# Altium schematic symbol library Indications.SchLib: 4 symbols
Pins are listed as number, name and electrical type; pins without a type are passive.

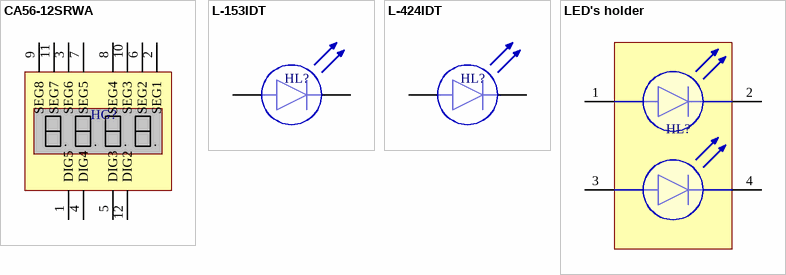
[diagram p0: symbols CA56-12SRWA to LED's holder]

## CA56-12SRWA
designator HG?  (value not drawn)
ValueManufacturer: Kingbright; ValueType: 4-х сегментный индикатор; ValueManufacturerPartNumber: CA56-12SRWA
footprint CA56-12SRWA
pins: 1 DIG5, 2 SEG1, 3 SEG6, 4 DIG4, 5 DIG3, 6 SEG2, 7 SEG5, 8 SEG4, 9 SEG8, 10 SEG3, 11 SEG7, 12 DIG2
text: .

## L-153IDT
designator HL?  (value not drawn)
LED 2.3x7; ValueManufacturer: Kingbright; ValueType: Светодиод; ValueManufacturerPartNumber: L-153IDT
footprint LED 3mm
pins: 1 Anode, 2 Cathode

## L-424IDT
designator HL?  (value not drawn)
LED 3mm; ValueManufacturer: Kingbright; ValueType: Светодиод; ValueManufacturerPartNumber: L-424IDT
footprint LED 3mm
pins: 1 Anode, 2 Cathode

## LED's holder
designator HL?  (value not drawn)
ValueManufacturer: Китай; ValueType: Держатель светодиодов 3мм х 2; ValueManufacturerPartNumber: *
footprint LEDs_HOLDER
pins: 1 Anode, 2 Cathode, 3 Anode, 4 Cathode